# EAGLE library part YC124-FR-072K2L (library YC124-FR-072K2L)
Resistor Array YC124 Series 0402 10K Ohm SMD Array Chip Resistor Buy Part <https://snapeda.com/parts/YC124-FR-072K2L/Yageo/view-part/?ref=eda> Check availability <https://pricing.snapeda.com/parts/YC124FR072K2L/Yageo/view-part?ref=eda>
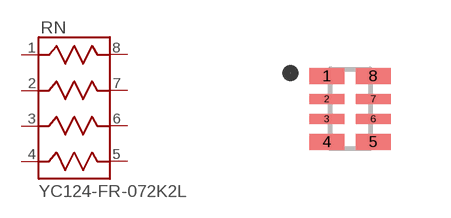
[diagram p0: symbol with the pads of RESCAXS50P200X100X55-8N; footprint RESCAXS50P200X100X55-8N]

Designator prefix RN

## YC124-FR-072K2L (Availability: In Stock; Description: 2.2k Ohm ±1% 62.5mW Power Per Element Isolated 4 Resistor Network/Array ±200ppm/°C 0804, Convex, Long Side Terminals; MF: Yageo; MP: YC124FR072K2L; Package: None; Price: None; Purchase-URL: https://pricing.snapeda.com/search/part/YC124FR072K2L/?ref=eda)  [RESCAXS50P200X100X55-8N]
1  1  pas
2  2  pas
3  3  pas
4  4  pas
5  5  pas
6  6  pas
7  7  pas
8  8  pas

## Footprint RESCAXS50P200X100X55-8N (pad centres in mm)
smd 0.87 x 0.41: 1 -0.58,0.825; 4 -0.58,-0.825; 5 0.58,-0.825; 8 0.58,0.825
smd 0.87 x 0.26: 2 -0.58,0.25; 3 -0.58,-0.25; 6 0.58,-0.25; 7 0.58,0.25